# EAGLE library part ATMEGA328PB-? (library XLibrary)
ATmega Series 20 MHz 32 KB Flash 2 KB SRAM 8-Bit Microcontroller. Device obtained from SnapEDA <https://www.snapeda.com/search/?q=ATMEGA328PB&search-type=parts>.
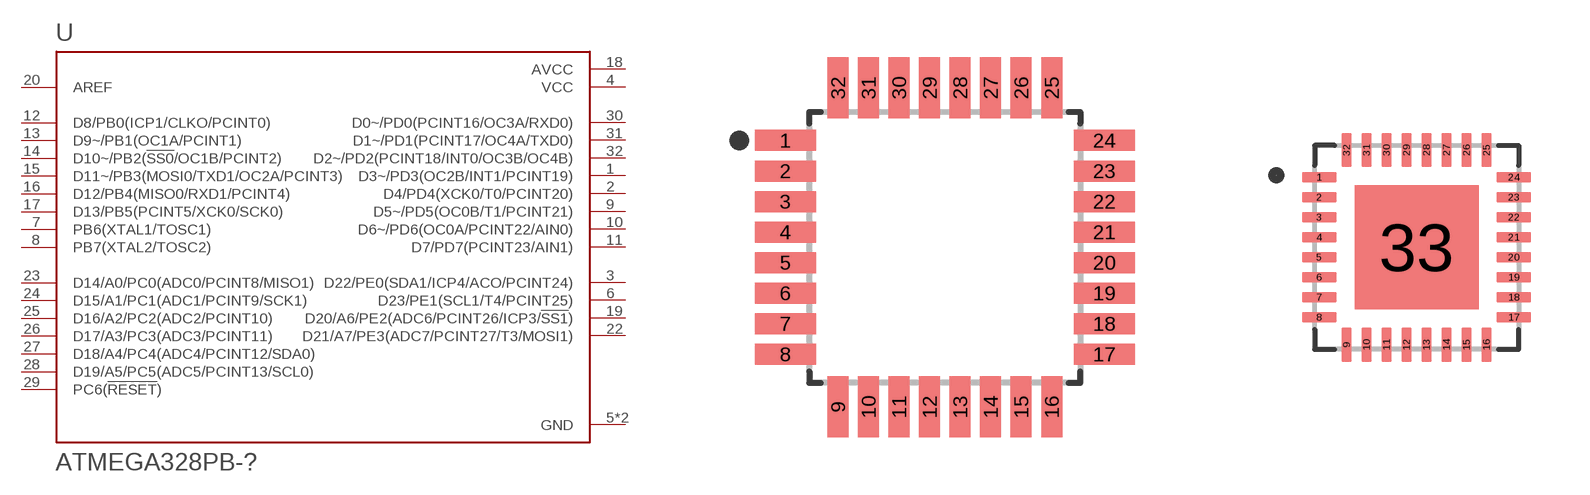
[diagram p7: symbol with the pads of QFP80P900X900X120-32N; footprints QFP80P900X900X120-32N, QFN50P500X500X90-33N]

Designator prefix U

## ATMEGA328PB-AU (AVAILABILITY: Unavailable; DESCRIPTION: AVR microcontroller; EEPROM: 1024B; SRAM: 2kB; Flash: 32kB; TQFP32; MF: Microchip; MP: ATMEGA328PB-AU; PACKAGE: TQFP-32; PRICE: None)  [QFP80P900X900X120-32N]
1  D3~/PD3(OC2B/INT1/PCINT19)
2  D4/PD4(XCK0/T0/PCINT20)
3  D22/PE0(SDA1/ICP4/ACO/PCINT24)
4  VCC  pwr
5  GND  pwr
6  D23/PE1(SCL1/T4/PCINT25)
7  PB6(XTAL1/TOSC1)
8  PB7(XTAL2/TOSC2)
9  D5~/PD5(OC0B/T1/PCINT21)
10  D6~/PD6(OC0A/PCINT22/AIN0)
11  D7/PD7(PCINT23/AIN1)
12  D8/PB0(ICP1/CLKO/PCINT0)
13  D9~/PB1(OC1A/PCINT1)
14  D10~/PB2(!SS0!/OC1B/PCINT2)
15  D11~/PB3(MOSI0/TXD1/OC2A/PCINT3)
16  D12/PB4(MISO0/RXD1/PCINT4)
17  D13/PB5(PCINT5/XCK0/SCK0)
18  AVCC  pwr
19  D20/A6/PE2(ADC6/PCINT26/ICP3/!SS1!)
20  AREF  in
21  GND  pwr
22  D21/A7/PE3(ADC7/PCINT27/T3/MOSI1)
23  D14/A0/PC0(ADC0/PCINT8/MISO1)
24  D15/A1/PC1(ADC1/PCINT9/SCK1)
25  D16/A2/PC2(ADC2/PCINT10)
26  D17/A3/PC3(ADC3/PCINT11)
27  D18/A4/PC4(ADC4/PCINT12/SDA0)
28  D19/A5/PC5(ADC5/PCINT13/SCL0)
29  PC6(!RESET!)
30  D0~/PD0(PCINT16/OC3A/RXD0)
31  D1~/PD1(PCINT17/OC4A/TXD0)
32  D2~/PD2(PCINT18/INT0/OC3B/OC4B)

## ATMEGA328PB-MU (DESCRIPTION: AVR 32KBytes Flash, 1KBytes EEPROM, 2KBytes RAM, w - 20MHZ, QFN/MFL, IND TEMP, GREEN 5 V/ DFN/QFN _M_; MF: Microchip; MP: ATMEGA328PB-MU; PACKAGE: VQFN-32)  [QFN50P500X500X90-33N]
1  D3~/PD3(OC2B/INT1/PCINT19)
2  D4/PD4(XCK0/T0/PCINT20)
3  D22/PE0(SDA1/ICP4/ACO/PCINT24)
4  VCC  pwr
5  GND  pwr
6  D23/PE1(SCL1/T4/PCINT25)
7  PB6(XTAL1/TOSC1)
8  PB7(XTAL2/TOSC2)
9  D5~/PD5(OC0B/T1/PCINT21)
10  D6~/PD6(OC0A/PCINT22/AIN0)
11  D7/PD7(PCINT23/AIN1)
12  D8/PB0(ICP1/CLKO/PCINT0)
13  D9~/PB1(OC1A/PCINT1)
14  D10~/PB2(!SS0!/OC1B/PCINT2)
15  D11~/PB3(MOSI0/TXD1/OC2A/PCINT3)
16  D12/PB4(MISO0/RXD1/PCINT4)
17  D13/PB5(PCINT5/XCK0/SCK0)
18  AVCC  pwr
19  D20/A6/PE2(ADC6/PCINT26/ICP3/!SS1!)
20  AREF  in
21  GND  pwr
22  D21/A7/PE3(ADC7/PCINT27/T3/MOSI1)
23  D14/A0/PC0(ADC0/PCINT8/MISO1)
24  D15/A1/PC1(ADC1/PCINT9/SCK1)
25  D16/A2/PC2(ADC2/PCINT10)
26  D17/A3/PC3(ADC3/PCINT11)
27  D18/A4/PC4(ADC4/PCINT12/SDA0)
28  D19/A5/PC5(ADC5/PCINT13/SCL0)
29  PC6(!RESET!)
30  D0~/PD0(PCINT16/OC3A/RXD0)
31  D1~/PD1(PCINT17/OC4A/TXD0)
32  D2~/PD2(PCINT18/INT0/OC3B/OC4B)
33  GND  pwr

## Footprint QFP80P900X900X120-32N (pad centres in mm)
smd 1.6 x 0.55: 1 -4.18,2.8; 2 -4.18,2; 3 -4.18,1.2; 4 -4.18,0.4; 5 -4.18,-0.4; 6 -4.18,-1.2; 7 -4.18,-2; 8 -4.18,-2.8; 17 4.18,-2.8; 18 4.18,-2; 19 4.18,-1.2; 20 4.18,-0.4; 21 4.18,0.4; 22 4.18,1.2; 23 4.18,2; 24 4.18,2.8
smd 0.55 x 1.6: 9 -2.8,-4.18; 10 -2,-4.18; 11 -1.2,-4.18; 12 -0.4,-4.18; 13 0.4,-4.18; 14 1.2,-4.18; 15 2,-4.18; 16 2.8,-4.18; 25 2.8,4.18; 26 2,4.18; 27 1.2,4.18; 28 0.4,4.18; 29 -0.4,4.18; 30 -1.2,4.18; 31 -2,4.18; 32 -2.8,4.18

## Footprint QFN50P500X500X90-33N (pad centres in mm)
smd 0.86 x 0.26: 1 -2.435,1.75; 2 -2.435,1.25; 3 -2.435,0.75; 4 -2.435,0.25; 5 -2.435,-0.25; 6 -2.435,-0.75; 7 -2.435,-1.25; 8 -2.435,-1.75; 17 2.435,-1.75; 18 2.435,-1.25; 19 2.435,-0.75; 20 2.435,-0.25; 21 2.435,0.25; 22 2.435,0.75; 23 2.435,1.25; 24 2.435,1.75
smd 0.26 x 0.86: 9 -1.75,-2.435; 10 -1.25,-2.435; 11 -0.75,-2.435; 12 -0.25,-2.435; 13 0.25,-2.435; 14 0.75,-2.435; 15 1.25,-2.435; 16 1.75,-2.435; 25 1.75,2.435; 26 1.25,2.435; 27 0.75,2.435; 28 0.25,2.435; 29 -0.25,2.435; 30 -0.75,2.435; 31 -1.25,2.435; 32 -1.75,2.435
smd 3.1 x 3.1: 33 0,0